# Altium footprint library SO(IC).PcbLib: 13 footprints
Each footprint in its own frame and in the unit in brackets; x right, y up, seen from the top. Pads: shape width x height; smd on the part's side, far side on the other; paste and mask are expansions set on the pad; w line width, h text height; cw(c..) or ccw(c..) is an arc to the next point about the centre after c.
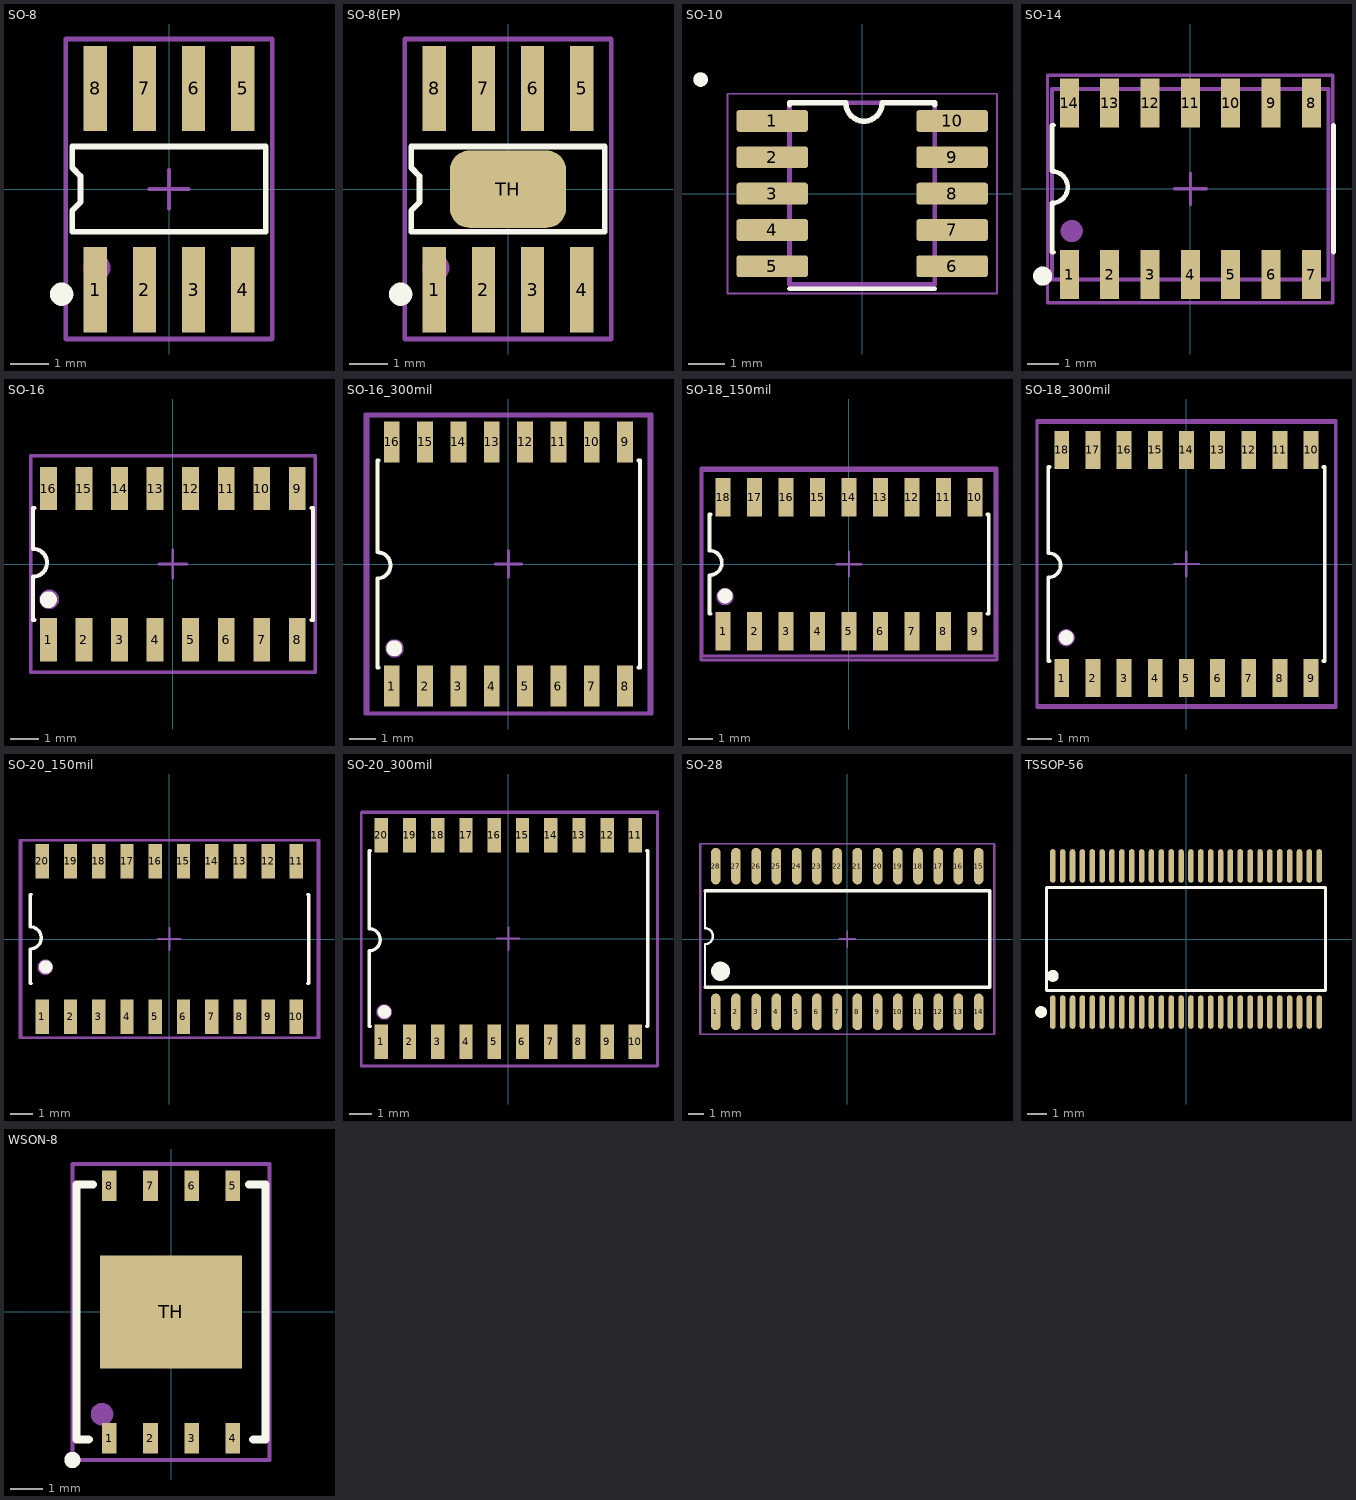
[diagram p0: the footprints below, top view; thin cyan lines are the x and y axes]

## SO-8 [mm] "Small Outline; 8 Leads; Body Width 3.9 mm; Pitch 1.27 mm"
height 1.75
pads (8):
  rect 0.6x2.2 smd mask+0.05: 1(-1.905,-2.6) 2(-0.635,-2.6) 3(0.635,-2.6) 4(1.905,-2.6) 5(1.905,2.6) 6(0.635,2.6) 7(-0.635,2.6) 8(-1.905,2.6)
Top Overlay:
  circle w0.3: c-2.772,-2.713 r0.15
  lines w0.15: -2.5,-1.1 -2.5,-0.55 -2.286,-0.336 -2.286,0.336 -2.5,0.55 -2.5,1.1 2.5,1.1 2.5,-1.1 -2.5,-1.1
Top Assembly (Mech13):
  circle w0.4: c-1.859,-2.03 r0.148
  lines w0.1: -0.5,0 0.5,0 ; 0,-0.5 0,0.5
  lines w0.127: -2.667,-3.87 -2.667,3.877 2.667,3.877 2.667,-3.87 -2.667,-3.87
Top Courtyard (Mech15):
  lines w0.127: -2.667,-3.87 2.667,-3.87 2.667,3.877 -2.667,3.877 -2.667,-3.87
3D body "so8.stp": height 1.73, standoff -0.04, extent -2.45,-3.068 2.44,3.068

## SO-8(EP) [mm] "Small Outline; 8 Leads; Body Width 3.9 mm; Pitch 1.27 mm"
height 1.75
pads (9):
  rect 0.6x2.2 smd mask+0.05: 1(-1.905,-2.6) 2(-0.635,-2.6) 3(0.635,-2.6) 4(1.905,-2.6) 5(1.905,2.6) 6(0.635,2.6) 7(-0.635,2.6) 8(-1.905,2.6)
  rrect50% 3x2 smd: TH(0,0)
Top Overlay:
  circle w0.3: c-2.772,-2.713 r0.15
  lines w0.15: -2.5,-1.1 2.5,-1.1 2.5,1.1 -2.5,1.1 -2.5,0.55 -2.286,0.336 -2.286,-0.336 -2.5,-0.55 -2.5,-1.1
Top Assembly (Mech13):
  circle w0.4: c-1.859,-2.03 r0.148
  lines w0.1: -0.5,0 0.5,0 ; 0,-0.5 0,0.5
  lines w0.127: -2.667,-3.87 2.667,-3.87 2.667,3.877 -2.667,3.877 -2.667,-3.87
Top Courtyard (Mech15):
  lines w0.127: -2.667,-3.87 -2.667,3.877 2.667,3.877 2.667,-3.87 -2.667,-3.87
3D body "so8.stp": height 1.73, standoff -0.04, extent -2.45,-3.068 2.44,3.068

## SO-10 [mm]
pads (10):
  rrect25% 1.97x0.6 smd: 1(-2.475,2) 2(-2.475,1) 3(-2.475,0) 4(-2.475,-1) 5(-2.475,-2) 6(2.475,-2) 7(2.475,-1) 8(2.475,0) 9(2.475,1) 10(2.475,2)
Top Overlay:
  circle w0.2: c-4.445,3.14 r0.1
  lines w0.127: -2,-2.614 2,-2.614
  lines w0.15: -2,2.445 -2,2.495 -0.45,2.495 ccw(c0.05,2.495) 0.55,2.495 2,2.495 2,2.445
Top Assembly (Mech13):
  circle w0.2: c-4.445,3.14 r0.1
  lines w0.127: -2,-2.5 -2,2.5 2,2.5 2,-2.5 -2,-2.5
Top Courtyard (Mech15):
  lines w0.05: -3.71,-2.75 -3.71,2.75 3.71,2.75 3.71,-2.75 -3.71,-2.75
3D body "User Library-Case751BQ.STEP": height 1.75, standoff 0, extent -3,-2.45 3,2.45

## SO-14 [mm]
pads (14):
  rect 0.6x1.55 smd mask+0.05: 1(-3.81,-2.7) 2(-2.54,-2.7) 3(-1.27,-2.7) 4(0,-2.7) 5(1.27,-2.7) 6(2.54,-2.7) 7(3.81,-2.7) 8(3.81,2.7) 9(2.54,2.7) 10(1.27,2.7) 11(0,2.7) 12(-1.27,2.7) 13(-2.54,2.7) 14(-3.81,2.7)
Top Overlay:
  circle w0.4: c-4.651,-2.747 r0.1
  lines w0.15: -4.31,-2 -4.36,-2 -4.36,-0.45 ccw(c-4.36,0.05) -4.36,0.55 -4.36,2 -4.31,2 ; 4.51,-2 4.51,2
Top Assembly (Mech13):
  circle w0.4: c-3.736,-1.331 r0.148
  lines w0.1: -0.5,0 0.5,0 ; 0,-0.5 0,0.5
  lines w0.127: -4.35,-2.85 4.35,-2.85 4.35,3.15 -4.35,3.15 -4.35,-2.85
Top Courtyard (Mech15):
  lines w0.1: -4.502,-3.589 -4.502,3.579 4.481,3.579 4.481,-3.589 -4.502,-3.589
3D body "CircuitWorks-SO-14 (PIC16F684).step": height 1.62, standoff 0.02, extent -4.345,-2.845 4.345,3.145

## SO-16 [mm]
pads (16):
  rect 0.6x1.55 smd mask+0.05: 1(-4.445,-2.7) 2(-3.175,-2.7) 3(-1.905,-2.7) 4(-0.635,-2.7) 5(0.635,-2.7) 6(1.905,-2.7) 7(3.175,-2.7) 8(4.445,-2.7) 9(4.445,2.7) 10(3.175,2.7) 11(1.905,2.7) 12(0.635,2.7) 13(-0.635,2.7) 14(-1.905,2.7) 15(-3.175,2.7) 16(-4.445,2.7)
Top Overlay:
  circle w0.4: c-4.445,-1.27 r0.1
  lines w0.15: -4.945,-2 -4.995,-2 -4.995,-0.45 ccw(c-4.995,0.05) -4.995,0.55 -4.995,2 -4.945,2 ; 4.955,-2 5.005,-2 5.005,2 4.955,2
Top Assembly (Mech13):
  circle w0.4: c-4.413,-1.26 r0.148
  lines w0.1: -0.5,0 0.5,0 ; 0,-0.5 0,0.5
  lines w0.127: -5.08,-3.87 -5.08,3.877 5.08,3.877 5.08,-3.87 -5.08,-3.87
Top Courtyard (Mech15):
  lines w0.127: -5.08,-3.87 -5.08,3.877 5.08,3.877 5.08,-3.87 -5.08,-3.87
3D body "User_Library-so16-1.stp": height 1.73, standoff -0.04, extent -5.03,-3.118 4.94,3.018

## SO-16_300mil [mm]
pads (16):
  rect 0.6x1.55 smd mask+0.05: 1(-4.445,-4.65) 2(-3.175,-4.65) 3(-1.905,-4.65) 4(-0.635,-4.65) 5(0.635,-4.65) 6(1.905,-4.65) 7(3.175,-4.65) 8(4.445,-4.65) 9(4.445,4.65) 10(3.175,4.65) 11(1.905,4.65) 12(0.635,4.65) 13(-0.635,4.65) 14(-1.905,4.65) 15(-3.175,4.65) 16(-4.445,4.65)
Top Overlay:
  circle w0.4: c-4.35,-3.212 r0.1
  lines w0.15: -4.945,-3.95 -4.995,-3.95 -4.995,-0.55 ccw(c-4.995,-0.05) -4.995,0.45 -4.995,3.95 -4.945,3.95 ; 4.955,-3.95 5.005,-3.95 5.005,3.95 4.955,3.95
Top Assembly (Mech13):
  circle w0.4: c-4.339,-3.215 r0.148
  lines w0.1: -0.5,0 0.5,0 ; 0,-0.5 0,0.5
  lines w0.127: -5.461,-5.715 5.461,-5.715 5.461,5.715 -5.461,5.715 -5.461,-5.715
Top Courtyard (Mech15):
  lines w0.127: -5.362,-5.675 -5.362,5.652 5.355,5.652 5.355,-5.675 -5.362,-5.675
3D body "so-16W.step": height 3.5, standoff 0, extent -5.12,-5.15 5.08,5.15

## SO-18_150mil [mm]
pads (18):
  rect 0.6x1.55 smd mask+0.05: 1(-5.08,-2.7) 2(-3.81,-2.7) 3(-2.54,-2.7) 4(-1.27,-2.7) 5(0,-2.7) 6(1.27,-2.7) 7(2.54,-2.7) 8(3.81,-2.7) 9(5.08,-2.7) 10(5.08,2.7) 11(3.81,2.7) 12(2.54,2.7) 13(1.27,2.7) 14(0,2.7) 15(-1.27,2.7) 16(-2.54,2.7) 17(-3.81,2.7) 18(-5.08,2.7)
Top Overlay:
  circle w0.4: c-4.995,-1.282 r0.1
  lines w0.15: -5.58,-2 -5.63,-2 -5.63,-0.45 ccw(c-5.63,0.05) -5.63,0.55 -5.63,2 -5.58,2 ; 5.59,-2 5.64,-2 5.64,2 5.59,2
Top Assembly (Mech13):
  circle w0.4: c-5.003,-1.312 r0.148
  lines w0.1: -0.5,0 0.5,0 ; 0,-0.5 0,0.5
  lines w0.127: -5.969,-3.87 5.969,-3.87 5.969,3.877 -5.969,3.877 -5.969,-3.87
Top Courtyard (Mech15):
  lines w0.127: -5.922,-3.7 -5.922,3.777 5.895,3.777 5.895,-3.7 -5.922,-3.7
3D body "User Library-SOIC.STEP": height 1.7, standoff 0, extent -5.588,-4.064 5.588,4.115

## SO-18_300mil [mm]
pads (18):
  rect 0.6x1.55 smd mask+0.05: 1(-5.08,-4.65) 2(-3.81,-4.65) 3(-2.54,-4.65) 4(-1.27,-4.65) 5(0,-4.65) 6(1.27,-4.65) 7(2.54,-4.65) 8(3.81,-4.65) 9(5.08,-4.65) 10(5.08,4.65) 11(3.81,4.65) 12(2.54,4.65) 13(1.27,4.65) 14(0,4.65) 15(-1.27,4.65) 16(-2.54,4.65) 17(-3.81,4.65) 18(-5.08,4.65)
Top Overlay:
  circle w0.4: c-4.897,-2.998 r0.1
  lines w0.15: -5.58,-3.95 -5.63,-3.95 -5.63,-0.55 ccw(c-5.63,-0.05) -5.63,0.45 -5.63,3.95 -5.58,3.95 ; 5.59,-3.95 5.64,-3.95 5.64,3.95 5.59,3.95
Top Assembly (Mech13):
  circle w0.4: c-4.898,-3.005 r0.148
  lines w0.1: -0.5,0 0.5,0 ; 0,-0.5 0,0.5
  lines w0.127: -6.096,-5.842 -6.096,5.842 6.096,5.842 6.096,-5.842 -6.096,-5.842
Top Courtyard (Mech15):
  lines w0.1: -6.085,-5.75 -6.085,5.761 6.07,5.761 6.07,-5.75 -6.085,-5.75
3D body "User Library-SOIC-18-300.STEP": height 2.57, standoff -0.03, extent -5.875,-5.225 5.875,5.375

## SO-20_150mil [mm]
pads (20):
  rect 0.6x1.55 smd mask+0.05: 1(-5.715,-3.5) 2(-4.445,-3.5) 3(-3.175,-3.5) 4(-1.905,-3.5) 5(-0.635,-3.5) 6(0.635,-3.5) 7(1.905,-3.5) 8(3.175,-3.5) 9(4.445,-3.5) 10(5.715,-3.5) 11(5.715,3.5) 12(4.445,3.5) 13(3.175,3.5) 14(1.905,3.5) 15(0.635,3.5) 16(-0.635,3.5) 17(-1.905,3.5) 18(-3.175,3.5) 19(-4.445,3.5) 20(-5.715,3.5)
Top Overlay:
  circle w0.4: c-5.565,-1.258 r0.1
  lines w0.15: -6.215,-2 -6.265,-2 -6.265,-0.45 ccw(c-6.265,0.05) -6.265,0.55 -6.265,2 -6.215,2 ; 6.225,-2 6.275,-2 6.275,2 6.225,2
Top Assembly (Mech13):
  circle w0.4: c-5.588,-1.27 r0.148
  lines w0.1: -0.5,0 0.5,0 ; 0,-0.5 0,0.5
  lines w0.127: -6.731,-4.445 -6.731,4.445 6.731,4.445 6.731,-4.445 -6.731,-4.445
Top Courtyard (Mech15):
  lines w0.1: -6.655,-4.445 -6.655,4.445 6.675,4.445 6.675,-4.445 -6.655,-4.445
3D body "User Library-NS-PDSO-20.STEP": height 2, standoff 0, extent -6.45,-3.9 6.45,3.9

## SO-20_300mil [mm]
pads (20):
  rect 0.6x1.55 smd mask+0.05: 1(-5.715,-4.65) 2(-4.445,-4.65) 3(-3.175,-4.65) 4(-1.905,-4.65) 5(-0.635,-4.65) 6(0.635,-4.65) 7(1.905,-4.65) 8(3.175,-4.65) 9(4.445,-4.65) 10(5.715,-4.65) 11(5.715,4.65) 12(4.445,4.65) 13(3.175,4.65) 14(1.905,4.65) 15(0.635,4.65) 16(-0.635,4.65) 17(-1.905,4.65) 18(-3.175,4.65) 19(-4.445,4.65) 20(-5.715,4.65)
Top Overlay:
  circle w0.4: c-5.578,-3.296 r0.1
  lines w0.15: -6.215,-3.95 -6.265,-3.95 -6.265,-0.55 ccw(c-6.265,-0.05) -6.265,0.45 -6.265,3.95 -6.215,3.95 ; 6.225,-3.95 6.275,-3.95 6.275,3.95 6.225,3.95
Top Assembly (Mech13):
  circle w0.4: c-5.588,-3.302 r0.148
  lines w0.1: -0.5,0 0.5,0 ; 0,-0.5 0,0.5 ; -6.604,-5.715 6.731,-5.715 6.731,5.715 -6.604,5.715 -6.604,-5.715
Top Courtyard (Mech15):
  lines w0.1: -6.62,-5.75 6.685,-5.75 6.685,5.661 -6.62,5.661 -6.62,-5.75
3D body "SO-20W.STEP": height 2.48, standoff 0, extent -6.41,-5.106 6.41,5.204

## SO-28 [mm]
height 2.65
pads (28):
  oval 0.6x2.3 smd: 1(-8.255,-4.575) 2(-6.985,-4.575) 3(-5.715,-4.575) 4(-4.445,-4.575) 5(-3.175,-4.575) 6(-1.905,-4.575) 7(-0.635,-4.575) 8(0.635,-4.575) 9(1.905,-4.575) 10(3.175,-4.575) 11(4.445,-4.575) 12(5.715,-4.575) 13(6.985,-4.575) 14(8.255,-4.575) 15(8.255,4.575) 16(6.985,4.575) 17(5.715,4.575) 18(4.445,4.575) 19(3.175,4.575) 20(1.905,4.575) 21(0.635,4.575) 22(-0.635,4.575) 23(-1.905,4.575) 24(-3.175,4.575) 25(-4.445,4.575) 26(-5.715,4.575) 27(-6.985,4.575) 28(-8.255,4.575)
Top Overlay:
  circle w0.6: c-7.95,-2.025 r0.3
  lines w0.15: -8.932,-3.025 -8.932,-0.325 ; -8.932,-0.323 ccw(c-8.932,0.177) -8.932,0.677 -8.932,2.977
  lines w0.2: -8.932,-3.025 8.95,-3.025 8.95,3.025 -8.932,3.025
Top Assembly (Mech13):
  circle w0.4: c-7.954,-2.009 r0.148
  lines w0.1: -0.5,0 0.5,0 ; 0,-0.5 0,0.5 ; -9.271,-5.969 -9.271,5.969 9.271,5.969 9.271,-5.969 -9.271,-5.969
Top Courtyard (Mech15):
  lines w0.1: -0.5,0 0.5,0 ; 0,-0.5 0,0.5 ; -9.2,-5.975 9.2,-5.975 9.2,5.975 -9.2,5.975 -9.2,-5.975
3D body "so28.stp": height 2.59, standoff -0.05, extent -9.08,-5.285 9,5.385

## TSSOP-56 [mm]
pads (56):
  oval 0.28x1.7 smd: 1(-6.75,-3.7) 2(-6.25,-3.7) 3(-5.75,-3.7) 4(-5.25,-3.7) 5(-4.75,-3.7) 6(-4.25,-3.7) 7(-3.75,-3.7) 8(-3.25,-3.7) 9(-2.75,-3.7) 10(-2.25,-3.7) 11(-1.75,-3.7) 12(-1.25,-3.7) 13(-0.75,-3.7) 14(-0.25,-3.7) 15(0.25,-3.7) 16(0.75,-3.7) 17(1.25,-3.7) 18(1.75,-3.7) 19(2.25,-3.7) 20(2.75,-3.7) 21(3.25,-3.7) 22(3.75,-3.7) 23(4.25,-3.7) 24(4.75,-3.7) 25(5.25,-3.7) 26(5.75,-3.7) 27(6.25,-3.7) 28(6.75,-3.7) 29(6.75,3.7) 30(6.25,3.7) 31(5.75,3.7) 32(5.25,3.7) 33(4.75,3.7) 34(4.25,3.7) 35(3.75,3.7) 36(3.25,3.7) 37(2.75,3.7) 38(2.25,3.7) 39(1.75,3.7) 40(1.25,3.7) 41(0.75,3.7) 42(0.25,3.7) 43(-0.25,3.7) 44(-0.75,3.7) 45(-1.25,3.7) 46(-1.75,3.7) 47(-2.25,3.7) 48(-2.75,3.7) 49(-3.25,3.7) 50(-3.75,3.7) 51(-4.25,3.7) 52(-4.75,3.7) 53(-5.25,3.7) 54(-5.75,3.7) 55(-6.25,3.7) 56(-6.75,3.7)
Top Overlay:
  circle w0.3: c-6.75,-1.869 r0.15
  circle w0.3: c-7.342,-3.7 r0.15
  lines w0.152: -7.076,-2.621 -7.076,2.621 7.076,2.621 7.076,-2.621 -7.076,-2.621

## WSON-8 [mm]
pads (9):
  rect 0.45x0.95 smd: 1(-1.905,-3.9) 2(-0.635,-3.9) 3(0.635,-3.9) 4(1.905,-3.9) 5(1.905,3.9) 6(0.635,3.9) 7(-0.635,3.9) 8(-1.905,3.9)
  rect 4.4x3.5 smd: TH(0,0)
Top Overlay:
  circle w0.25: c-3.048,-4.572 r0.125
  lines w0.254: -2.54,-3.937 -2.921,-3.937 -2.921,3.937 -2.413,3.937 ; 2.413,3.937 2.921,3.937 2.921,-3.937 2.54,-3.937
Top Assembly (Mech13):
  circle w0.4: c-2.132,-3.158 r0.148
  lines w0.1: -0.5,0 0.5,0 ; 0,-0.5 0,0.5
  lines w0.127: -3.048,-4.572 -3.048,4.572 3.048,4.572 3.048,-4.572 -3.048,-4.572
Top Courtyard (Mech15):
  lines w0.1: -3.048,-4.572 -3.048,4.572 3.048,4.572 3.048,-4.572 -3.048,-4.572
3D body "TH58CVG3S0HRAIJ.stp": height 0.8, standoff 0, extent -3,-4.05 3,4.05